# EAGLE library part HARWIN26 (library DSDEagleLibrary)
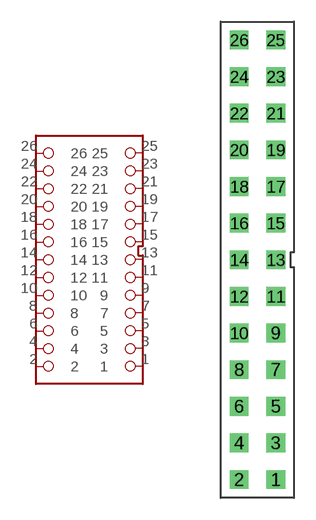
[diagram p38: symbol with the pads of HARWIN26; footprint HARWIN26]

Designator prefix -

## HARWIN26  [HARWIN26]
1  1
2  2
3  3
4  4
5  5
6  6
7  7
8  8
9  9
10  10
11  11
12  12
13  13
14  14
15  15
16  16
17  17
18  18
19  19
20  20
21  21
22  22
23  23
24  24
25  25
26  26

## Footprint HARWIN26 (pad centres in mm)
drill 0.8 square: 1 5.08,2.54; 2 2.54,2.54; 3 5.08,5.08; 4 2.54,5.08; 5 5.08,7.62; 6 2.54,7.62; 7 5.08,10.16; 8 2.54,10.16; 9 5.08,12.7; 10 2.54,12.7; 11 5.08,15.24; 12 2.54,15.24; 13 5.08,17.78; 14 2.54,17.78; 15 5.08,20.32; 16 2.54,20.32; 17 5.08,22.86; 18 2.54,22.86; 19 5.08,25.4; 20 2.54,25.4; 21 5.08,27.94; 22 2.54,27.94; 23 5.08,30.48; 24 2.54,30.48; 25 5.08,33.02; 26 2.54,33.02